# Altium integrated library 3557-2.IntLib: 1 symbol
Pins are listed as number, name and electrical type; pins without a type are passive.

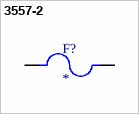
[diagram p0: symbol 3557-2]

## 3557-2
designator F?
MP: 3557-2; Package: None; Value: *; Availability: Unavailable; Price: None
footprint FUSE_3557-2
pins: 1_1 1, 1_2 1, 2_1 2, 2_2 2